# EAGLE library part SFW16S-2STE1LF (library FCI_By_element14_Batch_1)
FFC/FPC CONNECTOR, RECEPTACLE 16 POS 1ROW
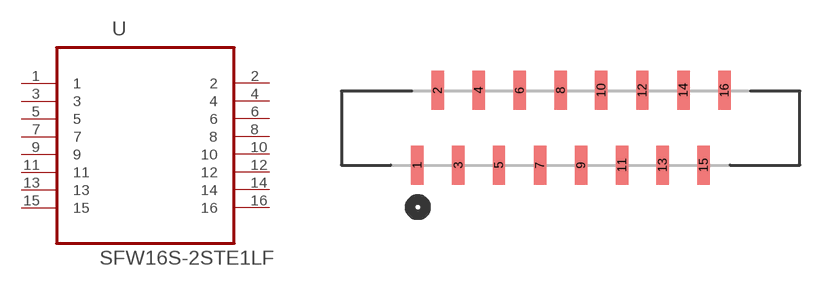
[diagram p68: symbol with the pads of FCI_SFW16S-2STE1LF; footprint FCI_SFW16S-2STE1LF]

Designator prefix U

## SFW16S-2STE1LF (MPN: SFW16S-2STE1LF; OC_FARNELL: -; OC_NEWARK: 62K5608; PACKAGE: CONNECTOR-16POS; SUPPLIER: FCI)  [FCI_SFW16S-2STE1LF]
1  1  pas
2  2  pas
3  3  pas
4  4  pas
5  5  pas
6  6  pas
7  7  pas
8  8  pas
9  9  pas
10  10  pas
11  11  pas
12  12  pas
13  13  pas
14  14  pas
15  15  pas
16  16  pas

## Footprint FCI_SFW16S-2STE1LF (pad centres in mm)
smd 0.61 x 1.905: 1 0,0; 2 0.991,3.658; 3 2.007,0; 4 2.997,3.658; 5 3.988,0; 6 5.004,3.658; 7 5.994,0; 8 7.01,3.658; 9 8.001,0; 10 8.992,3.658; 11 10.008,0; 12 10.998,3.658; 13 11.989,0; 14 13.005,3.658; 15 13.995,0; 16 15.011,3.658